# Altium schematic symbol library Schlib1.SchLib: 11 symbols
Pins are listed as number, name and electrical type; pins without a type are passive.

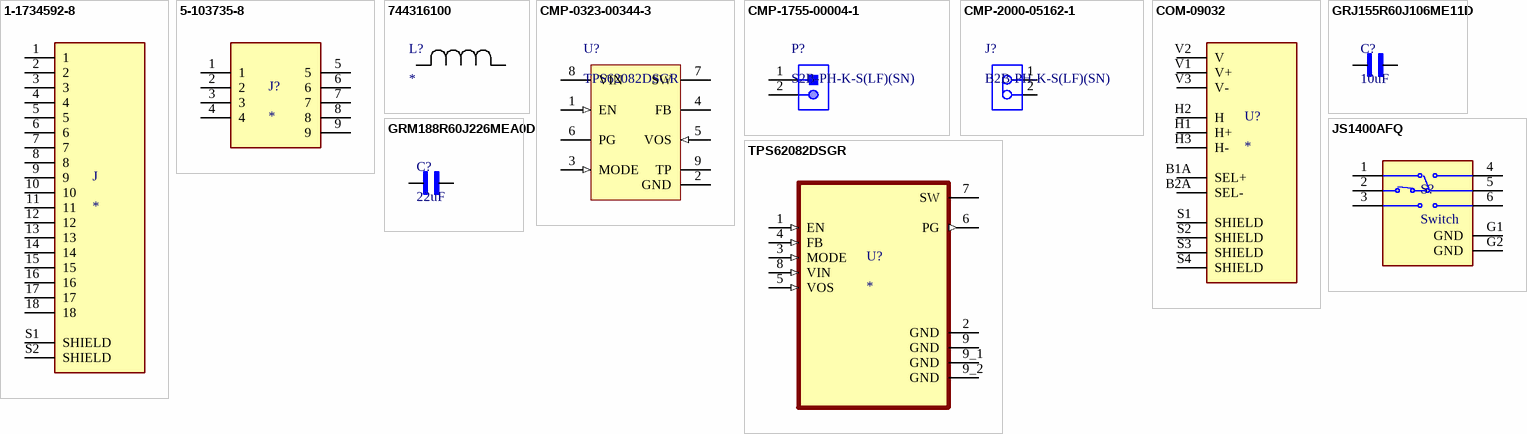
[diagram p0: symbols 1-1734592-8 to TPS62082DSGR]

## 1-1734592-8
designator J
FFC/FPC Connector, 18 Contact(s), 1 Row(s), Female, Right Angle, 0.02 inch Pitch, Surface Mount Terminal, Locking, Natural Insulator; Manufacturer Series: 1734592; MF: TE Connectivity; MP: 1-1734592-8; Connector Type: CARD EDGE CONNECTOR; Option: General Purpose; Number of Rows Loaded: 1; Number of Contacts: 18; Contact Pattern: RECTANGULAR; Contact Resistance: 35mR; Contact Style: BELLOWED TYPE; Filter Feature: No; Insulation Resistance: 50MR; Rated Current (Signal): 500mA; Dielectric Withstanding Voltage (AC): 250V; Durability: 15Cycles; Body Breadth: 0.079inch; Body Length: 0.568inch; Body Depth: 0.201inch; Reference Standard: UL; Reliability: COMMERCIAL; Price: None; Value: *; Package: None; SnapEDA_Link: https://www.snapeda.com/parts/1-1734592-8/TE%20Connectivity/view-part/4788494/?ref=snap; Availability: Unavailable; Supplier: Digi-Key; Supplier Part Number: A100286CT-ND; Manufacturer: TE Connectivity; Manufacturer Part Number: 1-1734592-8; RoHS: Yes; Category: FFC / FPC; Stock: 30032; Pricing: 1=1.08000, 10=0.91500, 25=0.87720, 50=0.85860, 100=0.82120, 250=0.74656, 500=0.67192, 1000=0.59726 (USD); Mounting Technology: Board; Contact Finish - Mating: NOT SPECIFIED; Insulation Color: Natural; Insulation Material: Thermoplastic; Min Operating Temperature: -40°C; Max Operating Temperature: 85°C; Contact Gender: Female; Mounting Style: RIGHT ANGLE; Termination: SMD/SMT; Mixed Contacts: No; Number Of PCB Rows: 1; PCB Contact Pattern: RECTANGULAR; Mating Information: NO; Terminal Pitch: 0.5mm; Mating Contact Pitch: 0.02inch; Mounting Option 1: LOCKING; Flammability Rating: UL94 V-0; RoHS Compliant: Yes; DIN Conformance: No; IEC Conformance: No; MIL Conformance: No; Reach SVHC Compliant: Yes; ComponentLink1URL: https://www.te.com:443/usa-en/product-1-1734592-8.datasheet.pdf?src-supplier=IHS+Markit; ComponentLink1Description: https://www.te.com:443/usa-en/product-1-1734592-8.datasheet.pdf?src-supplier=IHS+Markit; ComponentLink2URL: https://datasheet.ciiva.com/23814/eng-cd-1734592-c-c-1734592-23814560.pdf?src-supplier=Newark; ComponentLink2Description: https://datasheet.ciiva.com/23814/eng-cd-1734592-c-c-1734592-23814560.pdf?src-supplier=Newark; ComponentLink3URL: https://datasheet.ciiva.com/3114/eng-ds-1-1773440-6-0506-3114191.pdf?src-supplier=Avnet; ComponentLink3Description: https://datasheet.ciiva.com/3114/eng-ds-1-1773440-6-0506-3114191.pdf?src-supplier=Avnet; ComponentLink4URL: https://datasheet.ciiva.com/30074/eng-ds-1-1773440-6-0506-30074062.pdf?src-supplier=Onlinecomponents.com; ComponentLink4Description: https://datasheet.ciiva.com/30074/eng-ds-1-1773440-6-0506-30074062.pdf?src-supplier=Onlinecomponents.com; ComponentLink5URL: https://datasheet.ciiva.com/1437/586796-1437313.pdf?src-supplier=Element14; ComponentLink5Description: https://datasheet.ciiva.com/1437/586796-1437313.pdf?src-supplier=Element14; ComponentLink6URL: https://datasheet.ciiva.com/669/eng-cd-1734592-c-c-1734592-669097.pdf?src-supplier=Digi-Key; ComponentLink6Description: https://datasheet.ciiva.com/669/eng-cd-1734592-c-c-1734592-669097.pdf?src-supplier=Digi-Key; ComponentLink7URL: https://datasheet.ciiva.com/669/eng-cd-1734592-c-c-1734592-669098.pdf?src-supplier=Digi-Key; ComponentLink7Description: https://datasheet.ciiva.com/669/eng-cd-1734592-c-c-1734592-669098.pdf?src-supplier=Digi-Key; ComponentLink8URL: https://datasheet.ciiva.com/669/eng-cd-1734592-c-c-1734592-669099.pdf?src-supplier=Digi-Key; ComponentLink8Description: https://datasheet.ciiva.com/669/eng-cd-1734592-c-c-1734592-669099.pdf?src-supplier=Digi-Key
footprint TE_1-1734592-8
pins: 1, 2, 3, 4, 5, 6, 7, 8, 9, 10, 11, 12, 13, 14, 15, 16, 17, 18, S1 SHIELD, S2 SHIELD

## 5-103735-8
designator J?
Board Connector, 9 Contact(s), 1 Row(s), Male, Straight, Solder Terminal, Black Insulator; Number_of_Positions: 9; MP: 5-103735-8; MF: TE Connectivity; Centerline_Pitch: 2.54 mm[.1 in]; Option: General Purpose; Filter Feature: No; Number of Rows Loaded: 1; SnapEDA_Link: https://www.snapeda.com/parts/5-103735-8/TE%20Connectivity%20AMP%20Connectors/view-part/2675807/?ref=snap; Package: None; Value: *; Product_Type: Connector; Digi-Key_Part_Number: A33940-ND; Supplier: Digi-Key; Supplier Part Number: A33940-ND; Manufacturer: TE Connectivity; Manufacturer Part Number: 5-103735-8; RoHS: Yes; Category: Circular Connectors; Stock: 1221; Pricing: 1=3.19000, 10=2.89300, 100=2.54890, 500=2.16654, 1000=1.84794, 5000=1.65677 (USD); Mounting Technology: Board; Contact Finish - Mating: NOT SPECIFIED; Contact Material: Brass; Contact Finish - Termination: Gold (Au); Connector Type: BOARD CONNECTOR; Contact Gender: Male; Mixed Contacts: No; Termination: Solder; Number of Contacts: 9; Mounting Style: STRAIGHT; JESD-609 Code: e4; Terminal Pitch: 2.54mm; Reach SVHC Compliant: Yes; RoHS Compliant: Yes; DIN Conformance: No; IEC Conformance: No; MIL Conformance: No; ComponentLink1URL: https://datasheet.ciiva.com:443/pdfs/VipMasterIC/IC/TYEL/TYEL-S-A0008869674/TYEL-S-A0008855265-1.pdf?src-supplier=IHS+Markit; ComponentLink1Description: https://datasheet.ciiva.com:443/pdfs/VipMasterIC/IC/TYEL/TYEL-S-A0008869674/TYEL-S-A0008855265-1.pdf?src-supplier=IHS+Markit; ComponentLink2URL: https://datasheet.ciiva.com/3118/eng-cs-1307819-section-5-cont-0808-3118283.pdf?src-supplier=Avnet; ComponentLink2Description: https://datasheet.ciiva.com/3118/eng-cs-1307819-section-5-cont-0808-3118283.pdf?src-supplier=Avnet; ComponentLink3URL: https://datasheet.ciiva.com/710/eng-cd-103735-u2-710292.pdf?src-supplier=Digi-Key; ComponentLink3Description: https://datasheet.ciiva.com/710/eng-cd-103735-u2-710292.pdf?src-supplier=Digi-Key; ComponentLink4URL: https://datasheet.ciiva.com/30142/eng-cs-1307819-section-5-cont-0808-30142397.pdf?src-supplier=Onlinecomponents.com; ComponentLink4Description: https://datasheet.ciiva.com/30142/eng-cs-1307819-section-5-cont-0808-30142397.pdf?src-supplier=Onlinecomponents.com
footprint TE_5-103735-8
pins: 1, 2, 3, 4, 5, 6, 7, 8, 9

## 744316100
designator L?
General Purpose Inductor, 1uH, 20%, 1 Element, SMD, 2221; Mfr_Name: Wurth Electronics; Manufacturer Part Number: 744316100; Supplier: Digi-Key; Supplier Part Number: 732-6176-1-ND; Manufacturer: Wurth Electronics; RoHS: Yes; Category: Fixed Inductors; Stock: 7461; Pricing: 1=2.72000, 50=2.52000, 100=2.29000, 250=2.08000, 500=1.89000 (USD); Terminal Finish: Copper; JESD-609 Code: e1; Inductor Type: GENERAL PURPOSE INDUCTOR; Reach SVHC Compliant: Yes; RoHS Compliant: Yes; ComponentLink1URL: https://datasheet.ciiva.com:443/pdfs/VipMasterIC/IC/MIDC/MIDC-S-A0007980274/MIDC-S-A0007980274-1.pdf?src-supplier=IHS+Markit; ComponentLink1Description: https://datasheet.ciiva.com:443/pdfs/VipMasterIC/IC/MIDC/MIDC-S-A0007980274/MIDC-S-A0007980274-1.pdf?src-supplier=IHS+Markit; ComponentLink2URL: http://www.farnell.com/datasheets/1880919.pdf?src-supplier=Farnell; ComponentLink2Description: http://www.farnell.com/datasheets/1880919.pdf?src-supplier=Farnell; ComponentLink3URL: http://www.farnell.com/datasheets/1880919.pdf?src-supplier=Element14; ComponentLink3Description: http://www.farnell.com/datasheets/1880919.pdf?src-supplier=Element14; ComponentLink4URL: https://katalog.we-online.de/pbs/datasheet/744316100.pdf?src-supplier=Digi-Key; ComponentLink4Description: https://katalog.we-online.de/pbs/datasheet/744316100.pdf?src-supplier=Digi-Key
footprint IND_16100_WRE
footprint IND_16100_WRE
pins: 1, 2

## CMP-0323-00344-3
designator U?, comment TPS62082DSGR
Buck Step Down Regulator with 2.3 to 6 V Input and 3.3 V Output, -40 to 85 degC, 8-Pin WSON (DSG), Green (RoHS & no Sb/Br); Manufacturer: Texas Instruments; Switch Current Limit(Typ)(A): 2.4; Vin(Min)(V): 2.3; Iq(Typ)(mA): 0.006; Regulated Outputs(#): 1; Vout(Max)(V): 3.3; Duty Cycle(Max)(%): 100; Iout(Max)(A): 1.2; SubFamily: Step-Down Regulator; Rating: Catalog; Vin(Max)(V): 6; ComponentLink1Description: Datasheet; ComponentLink3Description: URL Link1; ComponentLink2URL: http://www.ti.com/litv/pdf/mpds308a; DatasheetVersion: SLVSAE8B; PackageVersion: revB, Oct-2010; Eco-Plan: Green (RoHS & no Sb/Br); ComponentLink2Description: Package Specification; PackageReference: DSG0008A; Code_JEDEC: MO-229; Topology: Buck; PartNumber: TPS62082DSGR; PackageDescription: 8-Pin Plastic Small Outline No-Lead, 2 x 2 x 0.8 mm Body, 0.5 mm Pitch, Exposed Pad; ComponentLink1URL: http://www.ti.com/general/docs/lit/getliterature.tsp?genericPartNumber=TPS62082&fileType=pdf; ComponentLink3URL: Samples URL:http://www.ti.com/product/tps62082#samples; Vout(Min)(V): 3.3; Mounting Technology: Surface Mount
footprint DSG0008A_V (SON, 8-Leads, Body 2x2mm, Pitch 0.5mm, Thermal Pad 1.6x0.9mm, TI Recommended)
pins: 1 EN (in) "Device Enable Logic Input. Logic HIGH enables the device, logic LOW disables the device and turns it into shutdown.", 2 GND (power) "Power and Signal Ground.", 3 MODE (in) "Snooze Mode Enable Logic Input. Logic HIGH enables the Snooze Mode, logic LOW disables the Snooze Mode", 4 FB "Feedback Pin for the internal control loop. Connect this pin to the external feedback divider for the adjustable output version. For the fixed output voltage versions this pin must be left floating or connected to GND.", 5 VOS (in) "Output Voltage Sense Pin for the internal control loop. Must be connected to output.", 6 PG (hiz) "Power Good open drain output. This pin is pulled to low if the output voltage is below regulation limits. Can be left floating if not used", 7 SW (power) "Switch Pin connected to the internal MOSFET switches and inductor terminal. Connect the inductor of the output filter here.", 8 VIN (power) "Power Supply Voltage Input.", 9 TP (power) "Connect it to GND."

## CMP-1755-00004-1
designator P?, comment S2B-PH-K-S(LF)(SN)
Male Header, Pitch 2 mm, 1 x 2 Position, Height 4.8 mm, Tail Length 3.4 mm, -25 to 85 degC, RoHS, Bulk; Case\Package: Radial; Tolerance: 20%; Capacitance: 10 uF; Voltage Rating (DC): 50 V; Packaging: Bulk; ComponentLink1URL: http://www.jst-mfg.com/product/pdf/eng/ePH.pdf; Radiation Hardening: No; Height: 11 mm; Package Quantity: 200; PackageDescription: Male Header, Pitch 2 mm, 1 x 2 Position, Height 4.8 mm, Tail Length 3.4 mm; PackageReference: S2B-PH-K-S; Diameter: 5 mm; Pins: 2; Mount: Through Hole; Max Operating Temperature: 85 degC; Min Operating Temperature: -40 degC; ComponentLink1Description: Datasheet; DatasheetVersion: Dec-12; Length: 11 mm; Lead Pitch: 2 mm; REACH SVHC: No SVHC; Voltage Rating: 50 V; RoHSCompliant: true
footprint JST-S2B-PH-K-S_V (THD, 2-Leads, Body 7.6x5.9mm, Pitch 2mm)
pins: 1, 2

## CMP-2000-05162-1
designator J?, comment B2B-PH-K-S(LF)(SN)
Male Header, Pitch 2 mm, 1 x 2 Position, Height 6 mm, Tail Length 3.4 mm, -25 to 85 degC, RoHS, Bulk; Manufacturer: JST; Pitch: 2mm; Style/Orientation: StraightHeader/Plug; No of Positions: 2; Datasheet Version: Nov-08; Datasheet URL: http://datasheet.octopart.com/B2B-PH-K-S%28LF%29%28SN%29-JST-datasheet-8324864.pdf; Manufacturer URL: http://www.jst.com/home2.html; Type: ShroudedHeader; Termination: Crimp
footprint JST-B2B-PH-K-S_V (Connector, 2-Leads, Body 5.9x4.5mm, Pitch 2mm)
pins: 1, 2

## COM-09032
designator U?
Thumb Joystick; MP: COM-09032; Price: None; Availability: Unavailable; Value: *; Package: None
footprint XDCR_COM-09032
pins: B1A SEL+, B2A SEL-, H1 H+, H2 H, H3 H-, S1 SHIELD, S2 SHIELD, S3 SHIELD, S4 SHIELD, V1 V+, V2 V, V3 V-

## GRJ155R60J106ME11D
designator C?, comment 10uF
Ceramic Capacitor, Multilayer, Ceramic, 6.3V, 20% +Tol, 20% -Tol, X5R, 15% TC, 10uF, Surface Mount, 0402; MP: GRJ155R60J106ME11D; MF: Murata; Multilayer: Yes; SnapEDA_Link: https://www.snapeda.com/parts/GRJ155R60J106ME11D/Murata%20Electronics%20North%20America/view-part/1756109/?ref=snap; Availability: Warning; Package: 1005 Murata; Price: None; Purchase-URL: https://pricing.snapeda.com/search/part/GRJ155R60J106ME11D/?ref=eda; Check_prices: https://www.snapeda.com/parts/GRJ155R60J106ME11D/Murata%20Electronics%20North%20America/view-part/1756109/?ref=eda; Value: *; Supplier: Digi-Key; Supplier Part Number: 490-13211-1-ND; Manufacturer: Murata; Manufacturer Part Number: GRJ155R60J106ME11D; RoHS: Yes; Category: Ceramic Capacitors; Stock: 1765749; Pricing: 1=0.17000, 10=0.11400, 50=0.06860, 100=0.05800, 500=0.03966, 1000=0.03508, 2500=0.03355, 5000=0.03050 (USD); Mounting Technology: Surface Mount; Pins: 2; Dielectric Material: Ceramic; Package Shape: Rectangular; Case/Package: 0402; Terminal Finish: Nickel; Min Operating Temperature: -55°C; Max Operating Temperature: 85°C; JESD-609 Code: e3; Capacitor Type: Ceramic; Tolerance  (fill in as +-): 20%; Packaging: Tape and Reel; Tolerance (fill in as +-): 20%; Rated DC Voltage (URdc): 6.3V; Temperature Characteristics Code: X5R; Termination: Wraparound; Reach SVHC Compliant: Yes; RoHS Compliant: Yes; ComponentLink1URL: https://datasheet.ciiva.com:443/pdfs/VipMasterIC/IC/MURE/MURE-S-A0004423395/MURE-S-A0004423590-1.pdf?src-supplier=IHS+Markit; ComponentLink1Description: https://datasheet.ciiva.com:443/pdfs/VipMasterIC/IC/MURE/MURE-S-A0004423395/MURE-S-A0004423590-1.pdf?src-supplier=IHS+Markit; ComponentLink2URL: http://psearch.en.murata.com/capacitor/product/GRJ155R60J106ME11%23.pdf?src-supplier=Digi-Key; ComponentLink2Description: http://psearch.en.murata.com/capacitor/product/GRJ155R60J106ME11%23.pdf?src-supplier=Digi-Key
footprint CAPC1005X70N
pins: 1, 2

## GRM188R60J226MEA0D
designator C?, comment 22uF
Ceramic Capacitor, Multilayer, Ceramic, 6.3V, 20% +Tol, 20% -Tol, X5R, 15% TC, 22uF, Surface Mount, 0603; MF: Murata; MP: GRM188R60J226MEA0D; Multilayer: Yes; Digi-Key_Purchase_URL: https://www.digikey.com/product-detail/en/murata-electronics/GRM188R60J226MEA0D/490-7611-1-ND/4280544?utm_source=snapeda&utm_medium=aggregator&utm_campaign=symbol; Digi-Key_Part_Number: 490-7611-1-ND; Package: 1608 Murata; SnapEDA_Link: https://www.snapeda.com/parts/GRM188R60J226MEA0D/Murata/view-part/4379901/?ref=snap; Value: *; Supplier: Digi-Key; Supplier Part Number: 490-7611-1-ND; Manufacturer: Murata; Manufacturer Part Number: GRM188R60J226MEA0D; RoHS: Yes; Category: Ceramic Capacitors; Stock: 7674559; Pricing: 1=0.21000, 10=0.14400, 50=0.08640, 100=0.07290, 500=0.04990, 1000=0.04414 (USD); Mounting Technology: Surface Mount; Pins: 2; Dielectric Material: Ceramic; Package Shape: Rectangular; Case/Package: 0603; Terminal Finish: Nickel; Min Operating Temperature: -55°C; Max Operating Temperature: 85°C; JESD-609 Code: e3; Capacitor Type: Ceramic; Tolerance  (fill in as +-): 20%; Package Style: SMTMeter; Packaging: Tape and Reel; Tolerance (fill in as +-): 20%; Rated DC Voltage (URdc): 6.3V; Temperature Characteristics Code: X5R; Termination: Wraparound; Length: 1.6mm; Width: 0.8mm; Height: 0.8mm; Reach SVHC Compliant: Yes; RoHS Compliant: Yes; ComponentLink1URL: https://datasheet.ciiva.com:443/pdfs/VipMasterIC/IC/MURE/MURE-S-A0004349797/MURE-S-A0004352371-1.pdf?src-supplier=IHS+Markit; ComponentLink1Description: https://datasheet.ciiva.com:443/pdfs/VipMasterIC/IC/MURE/MURE-S-A0004349797/MURE-S-A0004352371-1.pdf?src-supplier=IHS+Markit; ComponentLink2URL: https://datasheet.ciiva.com/29540/partnumbering-e-01-29540442.pdf?src-supplier=Digi-Key; ComponentLink2Description: https://datasheet.ciiva.com/29540/partnumbering-e-01-29540442.pdf?src-supplier=Digi-Key; ComponentLink3URL: https://datasheet.ciiva.com/29540/partnumbering-e-01-29540441.pdf?src-supplier=Digi-Key; ComponentLink3Description: https://datasheet.ciiva.com/29540/partnumbering-e-01-29540441.pdf?src-supplier=Digi-Key; ComponentLink4URL: https://datasheet.ciiva.com/29540/partnumbering-e-01-29540443.pdf?src-supplier=Digi-Key; ComponentLink4Description: https://datasheet.ciiva.com/29540/partnumbering-e-01-29540443.pdf?src-supplier=Digi-Key
footprint CAPC1608X100N
pins: 1, 2

## JS1400AFQ
designator S?, comment Switch
SWITCH NAVIGATION 50MA 12V; MP: JS1400AFQ; Availability: Unavailable; Package: None; Price: None; Value: *
footprint SW_JS1400AFQ
pins: 1, 2, 3, 4, 5, 6, G1 GND (power), G2 GND (power)

## TPS62082DSGR
designator U?
Switching Regulator, Current-mode, 1.2A, 2000kHz Switching Freq-Max, PDSO8; MF: Texas Instruments; MP: TPS62082DSGR; Package Body Material: Plastic; Control Technique: HYSTERETIC CURRENT MODE; Max Supply Voltage: 6V; Min Input Voltage: 2.3V; Nominal Supply Voltage: 3.6V; Channels: 1; Max Output current: 2mA; Nominal Output Voltage: 3.3V; Switcher Configuration: BUCK; Qualification Status: Not Qualified; SnapEDA_Link: https://www.snapeda.com/parts/TPS62082DSGR/Texas%20Instruments/view-part/232318/?ref=snap; Digi-Key_Part_Number: 296-49331-1-ND; Purchase-URL: https://pricing.snapeda.com/search/part/TPS62082DSGR/?ref=eda; Value: *; Package: WSON-8 Texas Instruments; Check_prices: https://www.snapeda.com/parts/TPS62082DSGR/Texas%20Instruments/view-part/232318/?ref=eda; Supplier: Digi-Key; Supplier Part Number: 296-49331-1-ND; Manufacturer: Texas Instruments; Manufacturer Part Number: TPS62082DSGR; RoHS: Yes; Category: Voltage Regulators - Switching; Stock: 28385; Pricing: 1=1.73000, 10=1.55100, 25=1.46280, 100=1.24630, 250=1.17024, 500=1.02396, 1000=0.84842 (USD); Case/Package: HVSON; Pins: 8; Package Shape: Square; Terminal Finish: Nickel; Min Operating Temperature: -40°C; Max Operating Temperature: 85°C; JESD-609 Code: e4; Throw Configuration: SWITCHING REGULATOR; Control Mode: CURRENT-MODE; JESD-30 Code: S-PDSO-N8; Moisture Sensitivity Level: 2; Package Style: SMALL OUTLINE, HEAT SINK/SLUG, VERY THIN PROFILEMeter; Peak Reflow Temperature (Cel): 260°C; Surface Mount: Yes; Terminal Form: No Lead; Terminal Position: DUAL; Length: 2mm; Width: 2mm; Height - Seated (Max): 0.8mm; Terminal Pitch: 0.5mm; Temperature Grade: INDUSTRIAL; Reach SVHC Compliant: Yes; RoHS Compliant: Yes; ComponentLink1URL: https://www.ti.com:443/lit/ds/symlink/tps62080.pdf?src-supplier=IHS+Markit; ComponentLink1Description: https://www.ti.com:443/lit/ds/symlink/tps62080.pdf?src-supplier=IHS+Markit; ComponentLink2URL: http://components.arrow.com/part/dataview/51571754S9131416N7713?src-supplier=Arrow+Electronics; ComponentLink2Description: http://components.arrow.com/part/dataview/51571754S9131416N7713?src-supplier=Arrow+Electronics; ComponentLink3URL: http://www.ti.com/lit/gpn/tps62082?src-supplier=Mouser; ComponentLink3Description: http://www.ti.com/lit/gpn/tps62082?src-supplier=Mouser; ComponentLink4URL: http://www.ti.com/general/docs/lit/getliterature.tsp?genericPartNumber=TPS62080A&&fileType=pdf&src-supplier=Avnet; ComponentLink4Description: http://www.ti.com/general/docs/lit/getliterature.tsp?genericPartNumber=TPS62080A&&fileType=pdf&src-supplier=Avnet; ComponentLink5URL: http://www.ti.com/general/docs/suppproductinfo.tsp?distId=10&amp;gotoUrl=http%3A%2F%2Fwww.ti.com%2Flit%2Fgpn%2Ftps62080&src-supplier=Digi-Key; ComponentLink5Description: http://www.ti.com/general/docs/suppproductinfo.tsp?distId=10&amp;gotoUrl=http%3A%2F%2Fwww.ti.com%2Flit%2Fgpn%2Ftps62080&src-supplier=Digi-Key; ComponentLink6URL: http://www.ti.com/lit/ds/symlink/tps62080.pdf?src-supplier=Digi-Key; ComponentLink6Description: http://www.ti.com/lit/ds/symlink/tps62080.pdf?src-supplier=Digi-Key
footprint SON50P200X200X80-9N
pins: 1 EN (in), 2 GND (power), 3 MODE (in), 4 FB (in), 5 VOS (in), 6 PG (out), 7 SW (power), 8 VIN (in), 9 GND (power), 9_1 GND (power), 9_2 GND (power)